# EAGLE library part JST_1.25_7P (library Scott-Connectors)
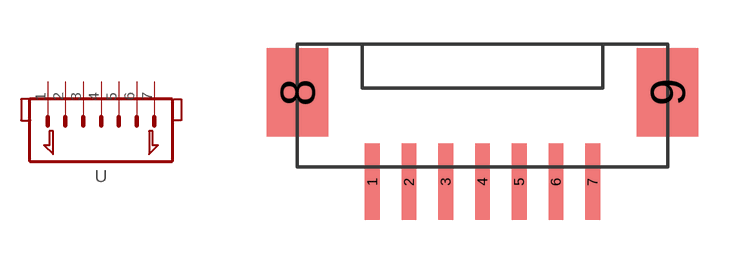
[diagram p2: symbol with the pads of JST1.25_7P; footprint JST1.25_7P]

Designator prefix -

## JST_1.25_7P  [JST1.25_7P]
1  1  pas
2  2  pas
3  3  pas
4  4  pas
5  5  pas
6  6  pas
7  7  pas

## Footprint JST1.25_7P (pad centres in mm)
https://item.taobao.com/item.htm?spm=a1z09.2.0.0.22f82e8dZsVtQb&id=526367971594&_u=p1po4ce24ab4
smd 0.5 x 2.6: 1 0,-0.5; 2 1.25,-0.5; 3 2.5,-0.5; 4 3.75,-0.5; 5 5,-0.5; 6 6.25,-0.5; 7 7.5,-0.5
smd 2.1 x 3: 8 -2.55,2.55; 9 10.05,2.55